# EAGLE library part ADAFRUIT_BTLE_SPI_FRIEND (library bluetooth)
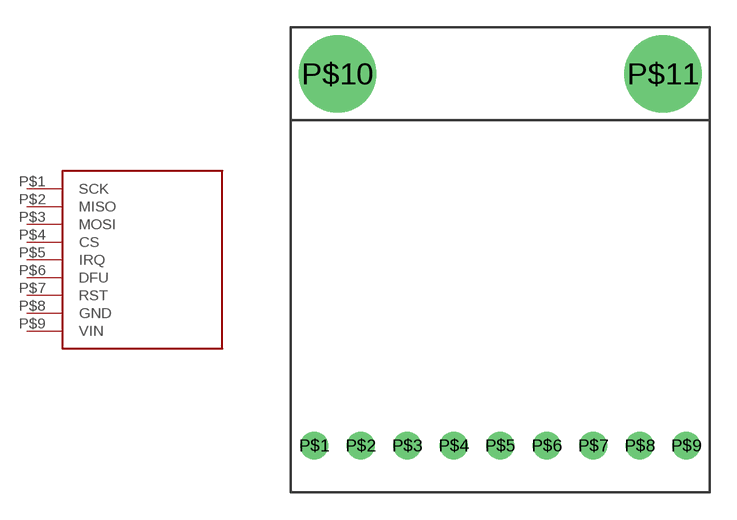
[diagram p0: symbol with the pads of ADAFRUIT_BTLE_SPI_FRIEND; footprint ADAFRUIT_BTLE_SPI_FRIEND]

Designator prefix -

## ADAFRUIT_BTLE_SPI_FRIEND  [ADAFRUIT_BTLE_SPI_FRIEND]
P$1  SCK
P$2  MISO
P$3  MOSI
P$4  CS
P$5  IRQ
P$6  DFU
P$7  RST
P$8  GND
P$9  VIN

## Footprint ADAFRUIT_BTLE_SPI_FRIEND (pad centres in mm)
drill 1: P$1 0,0; P$2 2.54,0; P$3 5.08,0; P$4 7.62,0; P$5 10.16,0; P$6 12.7,0; P$7 15.24,0; P$8 17.78,0; P$9 20.32,0
drill 3.2: P$10 1.27,20.32; P$11 19.05,20.32